# Altium footprint library MyFootprints.PcbLib: 23 footprints (part 1 of 2)
Each footprint in its own frame and in the unit in brackets; x right, y up, seen from the top. Pads: shape width x height; smd on the part's side, far side on the other; paste and mask are expansions set on the pad; w line width, h text height; cw(c..) or ccw(c..) is an arc to the next point about the centre after c.
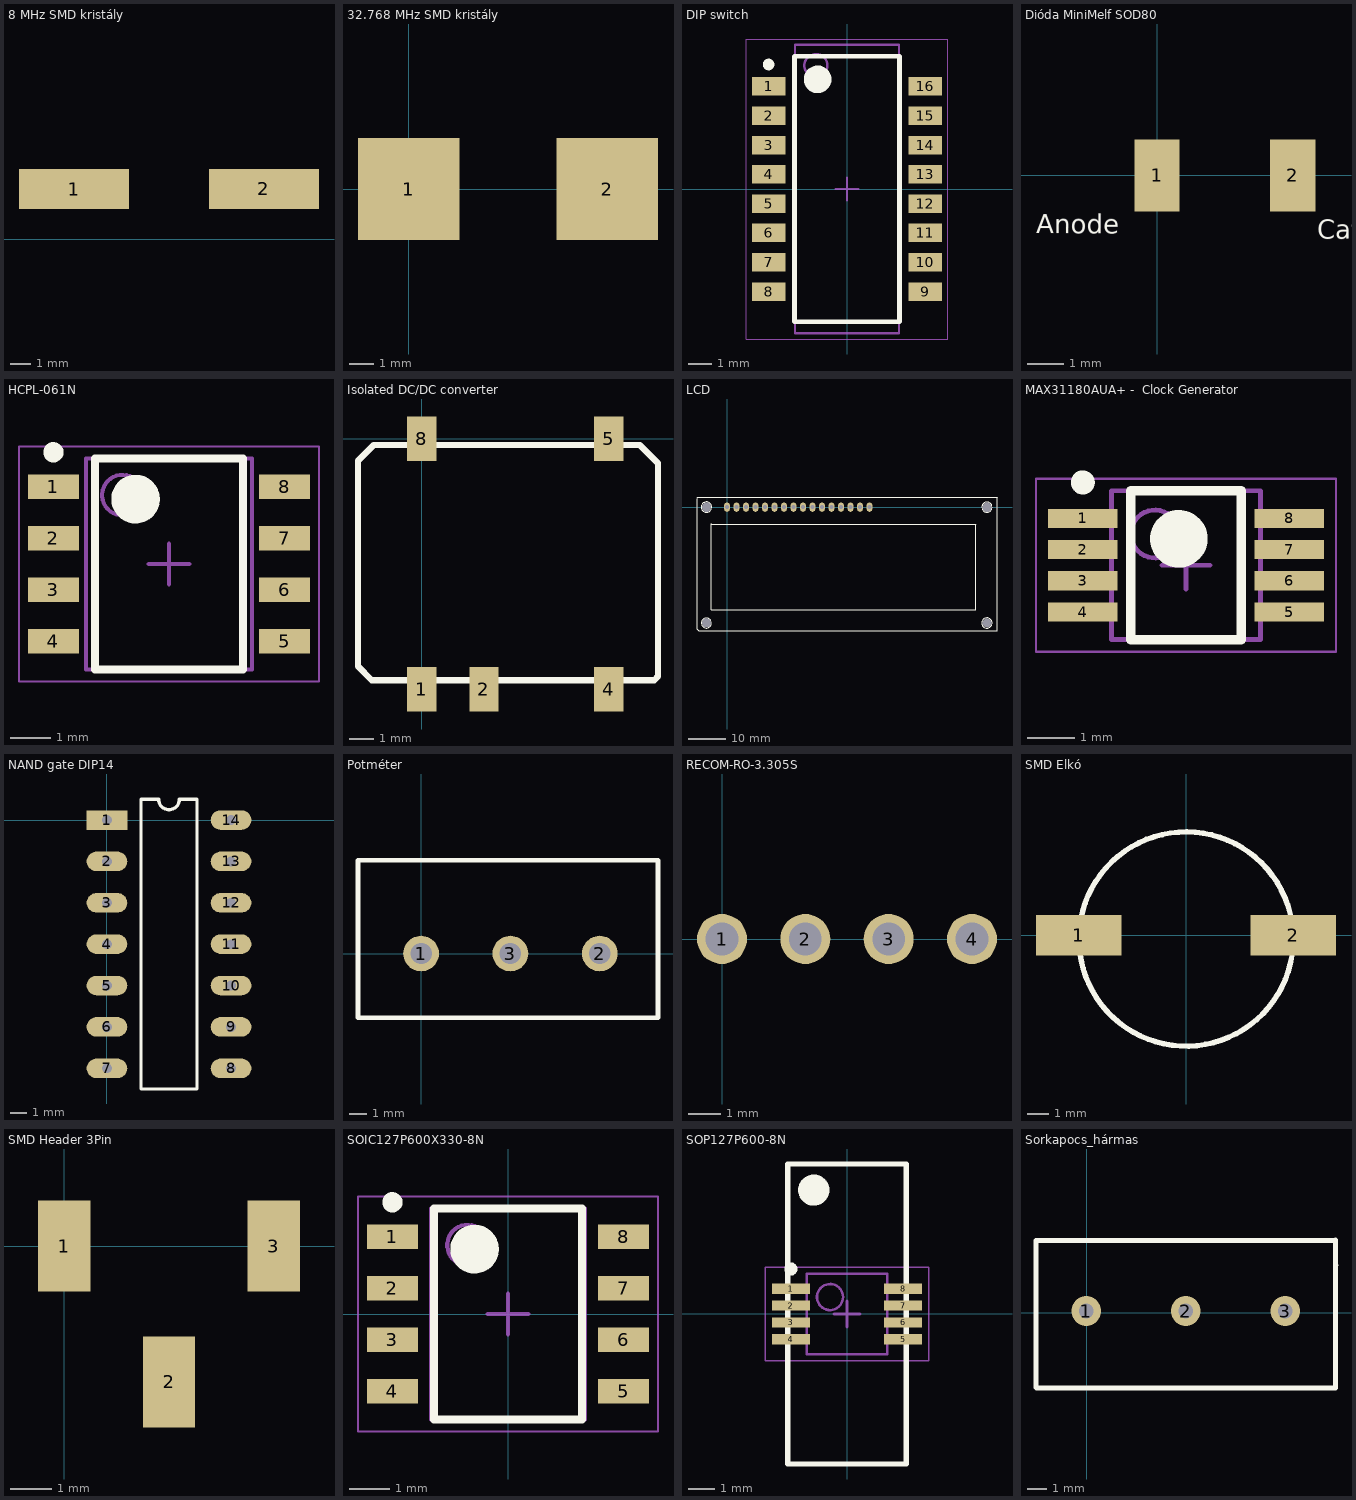
[diagram p0: the footprints below, top view; thin cyan lines are the x and y axes]

## 8 MHz SMD kristály [mm]
pads (2):
  rect 5.5x2 smd: 1(6.75,2.5) 2(16.25,2.5)

## 32.768 MHz SMD kristály [mm]
pads (2):
  rect 4.1x4.1 smd: 1(0,0) 2(8,0)

## DIP switch [mm] "TSOP, 16-Leads, Body 12,50x4,50mm, Pitch 1,27mm, IPC Medium Density"
height 1.5
pads (16):
  rect 1.45x0.8 smd: 1(-3.4,4.445) 2(-3.4,3.175) 3(-3.4,1.905) 4(-3.4,0.635) 5(-3.4,-0.635) 6(-3.4,-1.905) 7(-3.4,-3.175) 8(-3.4,-4.445) 9(3.4,-4.445) 10(3.4,-3.175) 11(3.4,-1.905) 12(3.4,-0.635) 13(3.4,0.635) 14(3.4,1.905) 15(3.4,3.175) 16(3.4,4.445)
Top Overlay:
  circle w0.25: c-3.4,5.395 r0.125
  circle w0.6: c-1.275,4.75 r0.3
  lines w0.2: -2.275,-5.75 -2.275,5.75 2.275,5.75 2.275,-5.75 -2.275,-5.75
Mechanical 13:
  circle w0.1: c-1.35,5.35 r0.5
  lines w0.1: -2.25,-6.25 -2.25,6.25 2.25,6.25 2.25,-6.25 -2.25,-6.25
Mechanical 15:
  lines w0.05: -4.375,-6.5 -4.375,6.5 4.375,6.5 4.375,-6.5 -4.375,-6.5
  lines w0.1: -0.5,0 0.5,0 ; 0,-0.5 0,0.5
3D body "DIP switch.step": height 1.5, standoff 0, extent -3.695,-6.25 3.695,6.25

## Dióda MiniMelf SOD80 [mm]
pads (2):
  rect 1.25x2 smd: 1(0,0) 2(3.75,0)
Top Overlay:
  text "Cathode" at 4.425,-1.75 h0.52
  text "Anode" at -3.35,-1.6 h0.52

## HCPL-061N [mm] "SOP, 8-Leads, Body 5,08x3,94mm, Pitch 1,27mm, IPC Medium Density"
height 3.31
pads (8):
  rect 1.25x0.6 smd: 1(-19.95,13.335) 2(-19.95,12.065) 3(-19.95,10.795) 4(-19.95,9.525) 5(-14.25,9.525) 6(-14.25,10.795) 7(-14.25,12.065) 8(-14.25,13.335)
Top Overlay:
  circle w0.6: c-17.925,13.03 r0.3
  circle w0.25: c-19.95,14.185 r0.125
  lines w0.2: -18.925,8.83 -15.275,8.83 -15.275,14.03 -18.925,14.03 -18.925,8.83
Mechanical 13:
  circle w0.1: c-18.25,13.13 r0.5
  lines w0.1: -19.15,8.83 -15.05,8.83 -15.05,14.03 -19.15,14.03 -19.15,8.83
Mechanical 15:
  lines w0.05: -20.8,8.53 -13.4,8.53 -13.4,14.33 -20.8,14.33 -20.8,8.53
  lines w0.1: -17.6,11.43 -16.6,11.43 ; -17.1,10.93 -17.1,11.93
3D body "HCPL-061N.step": height 3.3, standoff 0, extent -20.097,8.83 -14.103,14.03

## Isolated DC/DC converter [mm] "R1SE-3.305/H2-R"
pads (5):
  rect 1.2x1.8 smd: 1(0,-10.2) 2(2.54,-10.2) 4(7.62,-10.2) 5(7.62,0) 8(0,0)
Top Overlay:
  lines w0.254: -2.591,-9.271 -2.591,-0.889 -1.956,-0.254 8.89,-0.254 9.627,-0.991 9.627,-9.677 9.474,-9.83 -2.032,-9.83 -2.591,-9.271

## LCD [mm]
height 9
pads (20):
  oval 1.5x2.5 hole 1: 1(0,0) 2(2.54,0) 3(5.08,0) 4(7.62,0) 5(10.16,0) 6(12.7,0) 7(15.24,0) 8(17.78,0) 9(20.32,0) 10(22.86,0) 11(25.4,0) 12(27.94,0) 13(30.48,0) 14(33.02,0) 15(35.56,0) 16(38.1,0)
  round 0 hole 2.5: 19(-5.5,-31) 19(-5.5,0) 19(69.5,-31) 19(69.5,0)
Top Overlay:
  circle w0.254: c-5.5,-31 r1.343
  circle w0.254: c69.5,-31 r1.365
  circle w0.254: c69.5,0 r1.362
  lines w0.254: -8.026,2.235 -8.026,-32.69 -7.62,-33.096 72.187,-33.096 72.187,2.565 72.085,2.667 -7.849,2.667 -8.026,2.489 ; -4.144,0.205 ccw(c-5.5,0) -4.14,0.178 ; -4.242,-4.47 -4.242,-27.407 -4.267,-27.432 66.472,-27.432 66.548,-27.508 66.548,-4.724 66.345,-4.521 7.874,-4.521 -2.946,-4.521 -4.191,-4.521 ; -4.242,-4.47 -4.191,-4.521 ; -4.242,-4.47 -4.191,-4.521

## MAX31180AUA+ -  Clock Generator [mm] "uSOP"
height 1.1
pads (8):
  rect 1.45x0.4 smd: 1(-49.45,22.425) 2(-49.45,21.775) 3(-49.45,21.125) 4(-49.45,20.475) 5(-45.15,20.475) 6(-45.15,21.125) 7(-45.15,21.775) 8(-45.15,22.425)
Top Overlay:
  circle w0.6: c-47.45,22 r0.3
  circle w0.25: c-49.45,23.175 r0.125
  lines w0.2: -48.45,19.9 -46.15,19.9 -46.15,23 -48.45,23 -48.45,19.9
Mechanical 13:
  circle w0.1: c-47.95,22.1 r0.5
  lines w0.1: -48.85,19.9 -45.75,19.9 -45.75,23 -48.85,23 -48.85,19.9
Mechanical 15:
  lines w0.05: -50.425,19.65 -44.175,19.65 -44.175,23.25 -50.425,23.25 -50.425,19.65
  lines w0.1: -47.8,21.45 -46.8,21.45 ; -47.3,20.95 -47.3,21.95
3D body "MAX31180AUA+ -  Clock Generator.step": height 1.1, standoff 0, extent -49.753,19.9 -44.848,23

## NAND gate DIP14 [mm]
pads (14):
  rect 2.5x1.2 hole 0.6: 1(0,0)
  oval 2.5x1.2 hole 0.6: 2(0,-2.54) 3(0,-5.08) 4(0,-7.62) 5(0,-10.16) 6(0,-12.7) 7(0,-15.24) 8(7.62,-15.24) 9(7.62,-12.7) 10(7.62,-10.16) 11(7.62,-7.62) 12(7.62,-5.08) 13(7.62,-2.54) 14(7.62,0)
Top Overlay:
  lines w0.2: 2.085,-16.51 5.535,-16.51 5.535,1.27 4.445,1.27 cw(c3.81,1.27) 3.175,1.27 2.085,1.27 2.085,-16.51

## Potméter [mm]
height 16.5
pads (3):
  round 2 hole 1.2: 1(0,0) 2(10,0) 3(5,0)
Top Overlay:
  lines w0.254: -3.531,-3.607 13.259,-3.607 13.259,5.232 -3.531,5.232 -3.531,3.391 -3.531,-1.206 -3.531,-3.607

## RECOM-RO-3.305S [mil]
height 393.7
pads (4):
  round 60 hole 39.37: 1(0,0) 2(100,0) 3(200,0) 4(300,0)

## SMD Elkó [mm]
pads (2):
  rect 4x1.9 smd: 1(-5,0) 2(5,0)
Top Overlay:
  lines w0.254: 5.005,-0.177 cw(c0.005,-0.177) 5.005,-0.1

## SMD Header 3Pin [mm] "3 pin SMD Header"
pads (3):
  rect 1.27x2.2 smd: 1(0,0) 2(2.54,-3.3) 3(5.08,0)

## SOIC127P600X330-8N [mm] "SOIC, 8-Leads, Body 5,08x3,94mm, Pitch 1,27mm, IPC Medium Density"
height 3.31
pads (8):
  rect 1.25x0.6 smd: 1(-2.85,1.905) 2(-2.85,0.635) 3(-2.85,-0.635) 4(-2.85,-1.905) 5(2.85,-1.905) 6(2.85,-0.635) 7(2.85,0.635) 8(2.85,1.905)
Top Overlay:
  circle w0.25: c-2.85,2.755 r0.125
  circle w0.6: c-0.825,1.6 r0.3
  lines w0.2: -1.825,-2.6 -1.825,2.6 1.825,2.6 1.825,-2.6 -1.825,-2.6
Mechanical 13:
  circle w0.1: c-1,1.7 r0.5
  lines w0.1: -1.9,-2.6 -1.9,2.6 1.9,2.6 1.9,-2.6 -1.9,-2.6
Mechanical 15:
  lines w0.05: -3.7,-2.9 -3.7,2.9 3.7,2.9 3.7,-2.9 -3.7,-2.9
  lines w0.1: -0.5,0 0.5,0 ; 0,-0.5 0,0.5
3D body "SOIC127P600X330-8N.step": height 3.3, standoff 0, extent -2.997,-2.6 2.997,2.6

## SOP127P600-8N [mm]
height 1.1
pads (8):
  rect 1.45x0.4 smd: 1(-2.15,0.975) 2(-2.15,0.325) 3(-2.15,-0.325) 4(-2.15,-0.975) 5(2.15,-0.975) 6(2.15,-0.325) 7(2.15,0.325) 8(2.15,0.975)
Top Overlay:
  circle w0.25: c-2.15,1.725 r0.125
  circle w0.6: c-1.275,4.75 r0.3
  lines w0.2: -2.275,-5.75 -2.275,5.75 2.275,5.75 2.275,-5.75 -2.275,-5.75
Mechanical 13:
  circle w0.1: c-0.65,0.65 r0.5
  lines w0.1: -1.55,-1.55 -1.55,1.55 1.55,1.55 1.55,-1.55 -1.55,-1.55
Mechanical 15:
  lines w0.05: -3.125,-1.8 -3.125,1.8 3.125,1.8 3.125,-1.8 -3.125,-1.8
  lines w0.1: -0.5,0 0.5,0 ; 0,-0.5 0,0.5
3D body: height 1.1, standoff 0.05, extent -1.55,-1.55 1.55,1.55

## Sorkapocs_hármas [mil]
height 401.57
pads (3):
  round 60 hole 30: 1(-1,3) 2(199,3) 3(399,3)
Top Overlay:
  lines w10: -102,-151 -102,145 499,145 ; -101,-152 500,-152 500,146 ; 500,94 501,95